# EAGLE library part RAM (library ESKD)
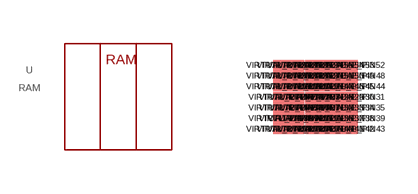
[diagram p5: symbol with the pads of UNIVERSAL_PACKAGE; footprint UNIVERSAL_PACKAGE]

Designator prefix U

## RAM  [UNIVERSAL_PACKAGE]
VIRTUAL_PIN0  IN
VIRTUAL_PIN1  IN1
VIRTUAL_PIN2  IN3
VIRTUAL_PIN3  IN4
VIRTUAL_PIN4  IN5
VIRTUAL_PIN5  IN7
VIRTUAL_PIN6  IN8
VIRTUAL_PIN7  IN9
VIRTUAL_PIN8  IN10
VIRTUAL_PIN9  IN11

## Footprint UNIVERSAL_PACKAGE (pad centres in mm)
smd 0.254 x 0.254: VIRTUAL_PIN0 0.127,-0.127; VIRTUAL_PIN1 0.394,-0.127; VIRTUAL_PIN2 0.66,-0.127; VIRTUAL_PIN3 0.927,-0.127; VIRTUAL_PIN4 0.127,-0.394; VIRTUAL_PIN5 0.394,-0.394; VIRTUAL_PIN6 0.66,-0.394; VIRTUAL_PIN7 0.927,-0.394; VIRTUAL_PIN8 0.127,-0.66; VIRTUAL_PIN9 0.394,-0.66; VIRTUAL_PIN10 0.66,-0.66; VIRTUAL_PIN11 0.927,-0.66; VIRTUAL_PIN12 0.127,-0.927; VIRTUAL_PIN13 0.394,-0.927; VIRTUAL_PIN14 0.66,-0.927; VIRTUAL_PIN15 0.927,-0.927; VIRTUAL_PIN16 0.927,0.14; VIRTUAL_PIN17 0.66,0.14; VIRTUAL_PIN18 0.394,0.14; VIRTUAL_PIN19 0.127,0.14; VIRTUAL_PIN20 0.927,0.406; VIRTUAL_PIN21 0.66,0.406; VIRTUAL_PIN22 0.394,0.406; VIRTUAL_PIN23 0.127,0.406; VIRTUAL_PIN24 0.927,0.673; VIRTUAL_PIN25 0.66,0.673; VIRTUAL_PIN26 0.394,0.673; VIRTUAL_PIN27 0.127,0.673; VIRTUAL_PIN28 1.194,-0.127; VIRTUAL_PIN29 1.46,-0.127; VIRTUAL_PIN30 1.727,-0.127; VIRTUAL_PIN31 1.994,-0.127; VIRTUAL_PIN32 1.194,-0.394; VIRTUAL_PIN33 1.46,-0.394; VIRTUAL_PIN34 1.727,-0.394; VIRTUAL_PIN35 1.994,-0.394; VIRTUAL_PIN36 1.194,-0.66; VIRTUAL_PIN37 1.46,-0.66; VIRTUAL_PIN38 1.727,-0.66; VIRTUAL_PIN39 1.994,-0.66; VIRTUAL_PIN40 1.194,-0.927; VIRTUAL_PIN41 1.46,-0.927; VIRTUAL_PIN42 1.727,-0.927; VIRTUAL_PIN43 1.994,-0.927; VIRTUAL_PIN44 1.994,0.14; VIRTUAL_PIN45 1.727,0.14; VIRTUAL_PIN46 1.46,0.14; VIRTUAL_PIN47 1.194,0.14; VIRTUAL_PIN48 1.994,0.406; VIRTUAL_PIN49 1.727,0.406; VIRTUAL_PIN50 1.46,0.406; VIRTUAL_PIN51 1.194,0.406; VIRTUAL_PIN52 1.994,0.673; VIRTUAL_PIN53 1.727,0.673; VIRTUAL_PIN54 1.46,0.673; VIRTUAL_PIN55 1.194,0.673